# EAGLE library part HV809 (library Ketturi electronics)
HV809 EL inverter IC
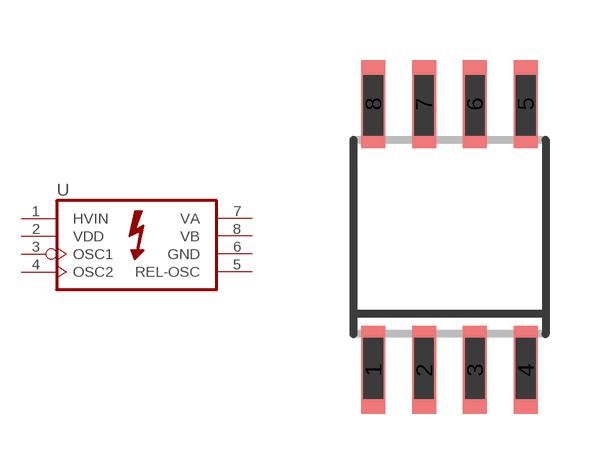
[diagram p8: symbol with the pads of SO-08M; footprint SO-08M]

Designator prefix -

## HV809SO-08M  [SO-08M]
1  HVIN  pwr
2  VDD  pwr
3  OSC1  in
4  OSC2
5  REL-OSC
6  GND  pwr
7  VA  out
8  VB  out

## Footprint SO-08M (pad centres in mm)
Small Outline Medium Plastic Gull Wing 207-mil body, package type SM
smd 0.6 x 2.2: 1 -1.905,-3.33; 2 -0.635,-3.33; 3 0.635,-3.33; 4 1.905,-3.33; 5 1.905,3.33; 6 0.635,3.33; 7 -0.635,3.33; 8 -1.905,3.33